# EAGLE library part AL2-2DA (library e-sps)
AL2 2DA 2 x Analog-Ausgang 0-10V, 4 bis 20mA MITSUBISHI Alpha_Installationsanweisung.pdf
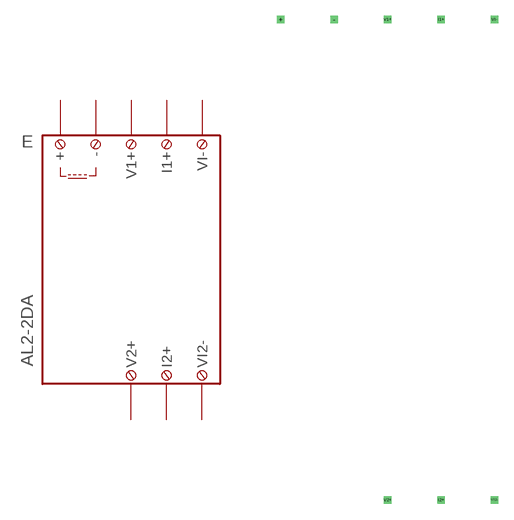
[diagram p22: symbol with the pads of AL2-2DA; footprint AL2-2DA]

Designator prefix E

## AL2-2DA  [AL2-2DA]
+  +  pas
-  -  pas
I1+  I1+  pas
I2+  I2+  pas
V1+  V1+  pas
V2+  V2+  pas
VI2-  VI2-  pas
VI-  VI-  pas

## Footprint AL2-2DA (pad centres in mm)
AL2 2DA
drill 0.2 pad 0.6 square: + -12.7,22.86; - -7.62,22.86; I1+ 2.54,22.86; I2+ 2.54,-22.86; V1+ -2.54,22.86; V2+ -2.54,-22.86; VI2- 7.62,-22.86; VI- 7.62,22.86